# Altium footprint library PcbLib5.PcbLib: 1 footprints
Each footprint in its own frame and in the unit in brackets; x right, y up, seen from the top. Pads: shape width x height; smd on the part's side, far side on the other; paste and mask are expansions set on the pad; w line width, h text height; cw(c..) or ccw(c..) is an arc to the next point about the centre after c.
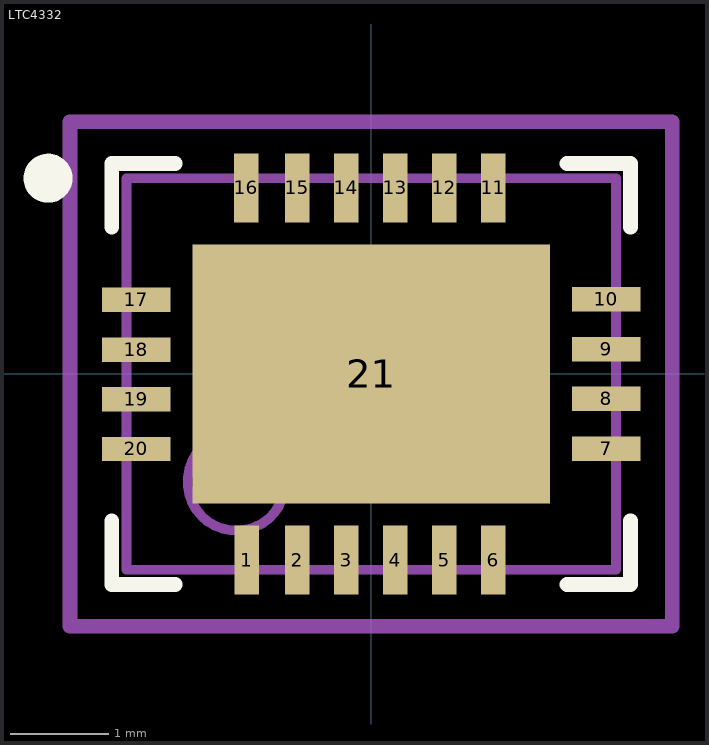
[diagram p0: the footprint, top view; thin cyan lines are the x and y axes]

## LTC4332 [mm]
pads (21):
  rect 0.25x0.7 smd: 1(-1.27,-1.9) 2(-0.754,-1.9) 3(-0.254,-1.9) 4(0.246,-1.9) 5(0.746,-1.9) 6(1.246,-1.9) 11(1.246,1.9) 12(0.746,1.9) 13(0.246,1.9) 14(-0.254,1.9) 15(-0.754,1.9) 16(-1.278,1.9)
  rect 0.7x0.25 smd: 7(2.4,-0.762) 8(2.4,-0.254) 9(2.4,0.254) 10(2.4,0.762) 17(-2.4,0.758) 18(-2.4,0.25) 19(-2.4,-0.258) 20(-2.4,-0.766)
  rect 3.65x2.65 smd: 21(0,0)
Top Overlay:
  circle w0.25: c-3.3,2 r0.125
  lines w0.15: -2.65,-1.5 -2.65,-2.15 -2,-2.15 ; -2.65,1.5 -2.65,1.7 -2.65,2.15 -2,2.15 ; 2,-2.15 2.65,-2.15 2.65,-1.5 ; 2,2.15 2.65,2.15 2.65,1.5
Mechanical 2:
  circle w0.1: c-1.375,-1.1 r0.5
  lines w0.1: -2.5,-2 2.5,-2 2.5,2 -2.5,2 -2.5,-2
Mechanical 15:
  lines w0.15: -0.5,0 0.5,0 ; 0,-0.5 0,0.5 ; -3.075,-2.575 3.075,-2.575 3.075,2.575 -3.075,2.575 -3.075,-2.575